# Altium footprint library EPCOS_SPM5020T-LR.PcbLib: 1 footprints
Each footprint in its own frame and in the unit in brackets; x right, y up, seen from the top. Pads: shape width x height; smd on the part's side, far side on the other; paste and mask are expansions set on the pad; w line width, h text height; cw(c..) or ccw(c..) is an arc to the next point about the centre after c.
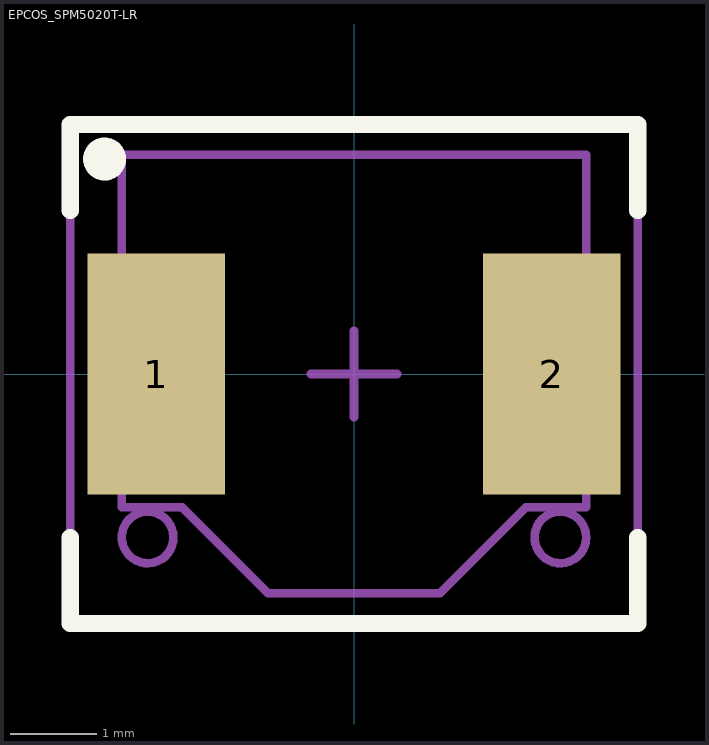
[diagram p0: the footprint, top view; thin cyan lines are the x and y axes]

## EPCOS_SPM5020T-LR [mm] "Power inductor,  shielded, 5.4 x 5.1 x 2 mm"
height 2.1
pads (2):
  rect 1.6x2.8 smd: 1(-2.3,0) 2(2.3,0)
Top Overlay:
  circle w0.25: c-2.9,2.5 r0.125
  lines w0.2: -3.3,-1.9 -3.3,-2.9 3.3,-2.9 3.3,-1.9 ; -3.3,1.9 -3.3,2.9 3.3,2.9 3.3,1.9
Mechanical 13:
  lines w0.1: -3.3,-2.9 -3.3,2.9 3.3,2.9 3.3,-2.9 -3.3,-2.9
Mechanical 15:
  circle w0.1: c2.4,-1.9 r0.3
  circle w0.1: c-2.4,-1.9 r0.3
  lines w0.1: -2.7,-1.55 -2,-1.55 -1,-2.55 1,-2.55 2,-1.55 2.7,-1.55 2.7,2.55 -2.7,2.55 -2.7,-1.55
Mechanical 2 (Mech9):
  lines w0.1: -0.5,0 0.5,0 ; 0,-0.5 0,0.5
3D body "SPM5020-LR.x_t": height 2, standoff 0, extent -2.7,-2.55 2.7,2.55